# Altium schematic symbol library a7105.SchLib: 1 symbol
Pins are listed as number, name and electrical type; pins without a type are passive.

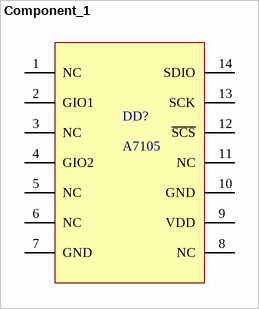
[diagram p0: symbol Component_1]

## Component_1
designator DD?, comment A7105
footprint A7105
pins: 1 NC, 2 GIO1, 3 NC, 4 GIO2, 5 NC, 6 NC, 7 GND, 8 NC, 9 VDD, 10 GND, 11 NC, 12 ~{SCS}, 13 SCK, 14 SDIO